# EAGLE library part BLUEPILL (library UNKNOWN-2024)
BLUEPILL
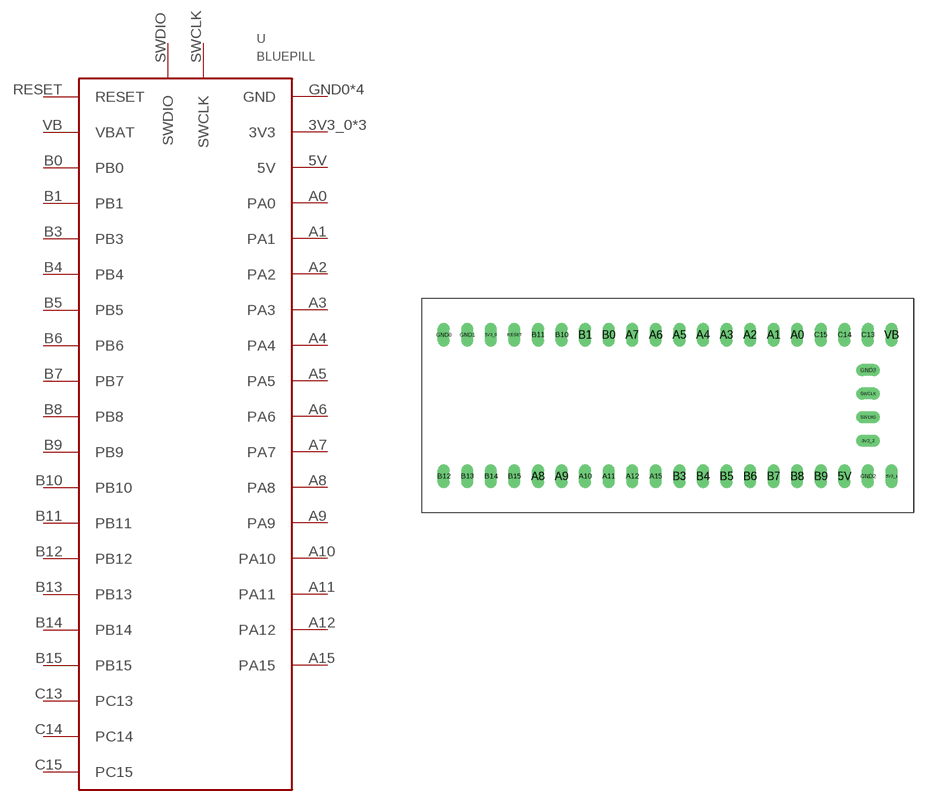
[diagram p6: symbol with the pads of BLUEPILL; footprint BLUEPILL]

Designator prefix -

## BLUEPILL  [BLUEPILL]
3V3_0  3V3
3V3_1  3V3
3V3_2  3V3
5V  5V
A0  PA0
A1  PA1
A2  PA2
A3  PA3
A4  PA4
A5  PA5
A6  PA6
A7  PA7
A8  PA8
A9  PA9
A10  PA10
A11  PA11
A12  PA12
A15  PA15
B0  PB0
B1  PB1
B3  PB3
B4  PB4
B5  PB5
B6  PB6
B7  PB7
B8  PB8
B9  PB9
B10  PB10
B11  PB11
B12  PB12
B13  PB13
B14  PB14
B15  PB15
C13  PC13
C14  PC14
C15  PC15
GND0  GND
GND1  GND
GND2  GND
GND3  GND
RESET  RESET
SWCLK  SWCLK
SWDIO  SWDIO
VB  VBAT

## Footprint BLUEPILL (pad centres in mm)
Microcontroller from st micro on board
drill 0.8 long: 3V3_0 -19.05,7.62; 3V3_1 24.13,-7.62; 3V3_2 21.59,-3.81; 5V 19.05,-7.62; A0 13.97,7.62; A1 11.43,7.62; A2 8.89,7.62; A3 6.35,7.62; A4 3.81,7.62; A5 1.27,7.62; A6 -1.27,7.62; A7 -3.81,7.62; A8 -13.97,-7.62; A9 -11.43,-7.62; A10 -8.89,-7.62; A11 -6.35,-7.62; A12 -3.81,-7.62; A15 -1.27,-7.62; B0 -6.35,7.62; B1 -8.89,7.62; B3 1.27,-7.62; B4 3.81,-7.62; B5 6.35,-7.62; B6 8.89,-7.62; B7 11.43,-7.62; B8 13.97,-7.62; B9 16.51,-7.62; B10 -11.43,7.62; B11 -13.97,7.62; B12 -24.13,-7.62; B13 -21.59,-7.62; B14 -19.05,-7.62; B15 -16.51,-7.62; C13 21.59,7.62; C14 19.05,7.62; C15 16.51,7.62; GND0 -24.13,7.62; GND1 -21.59,7.62; GND2 21.59,-7.62; GND3 21.59,3.81; RESET -16.51,7.62; SWCLK 21.59,1.27; SWDIO 21.59,-1.27; VB 24.13,7.62